# Altium schematic symbol library PulseGenSymLib.SchLib: 31 symbols
Pins are listed as number, name and electrical type; pins without a type are passive.

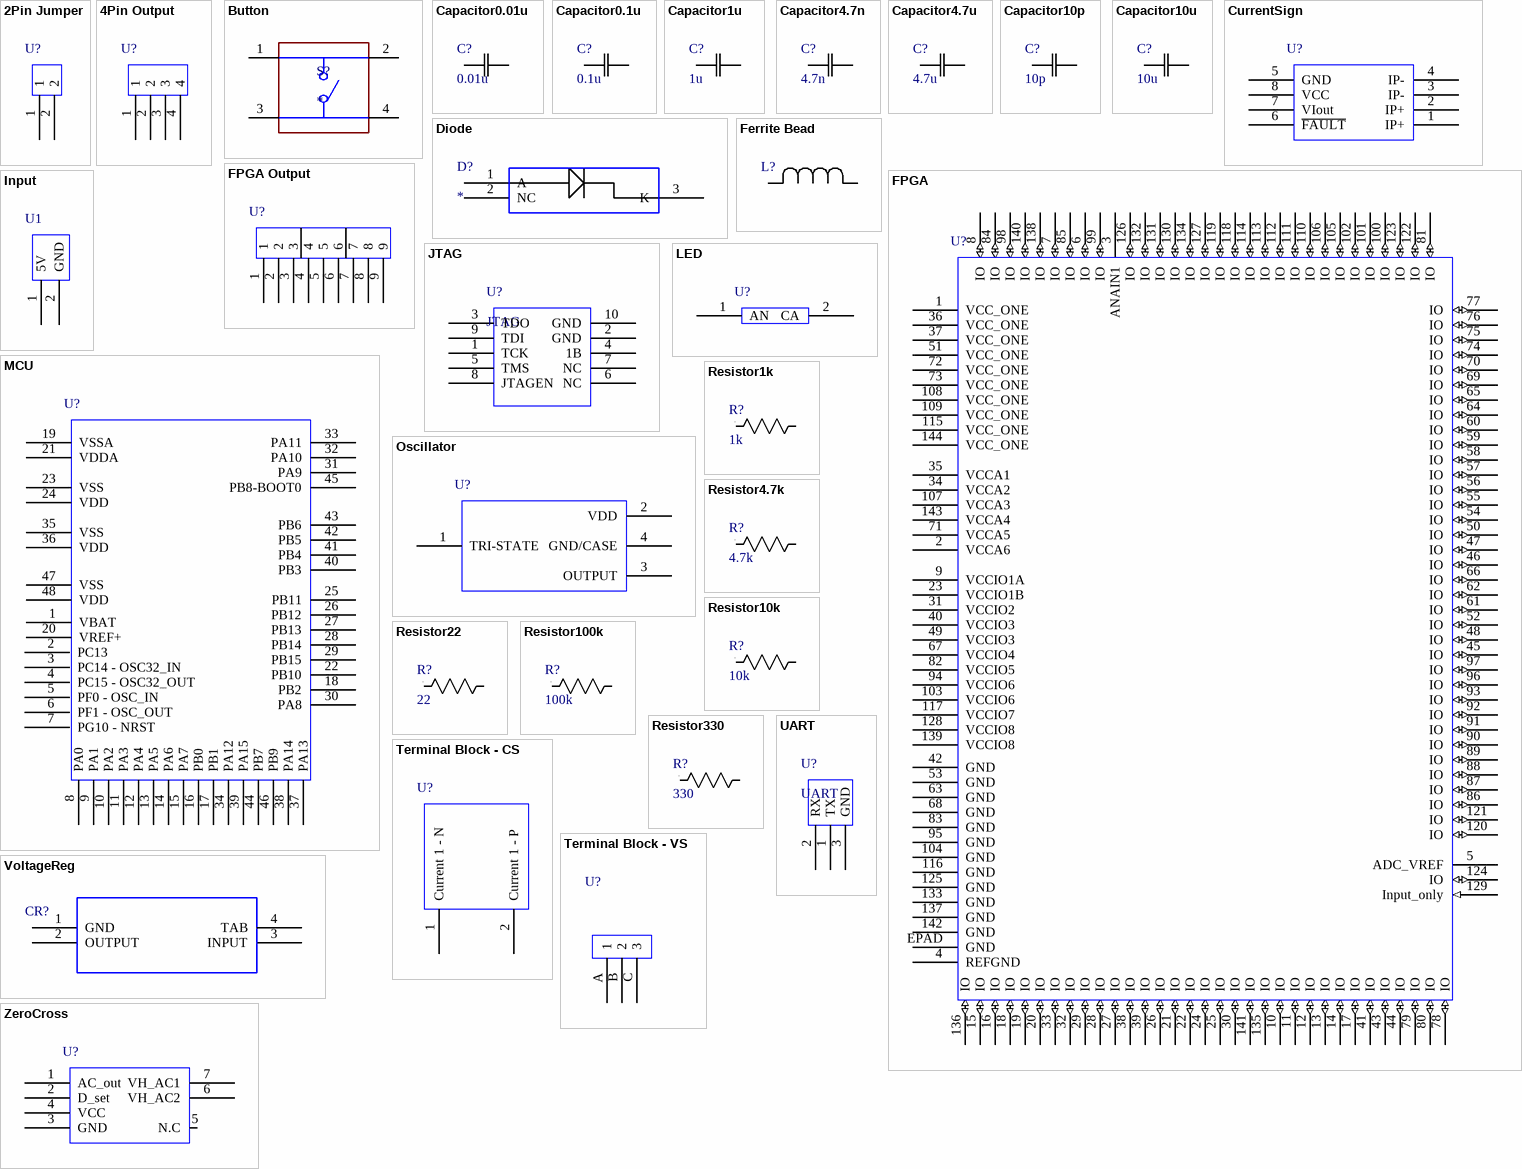
[diagram p0: symbols 2Pin Jumper to ZeroCross]

## 2Pin Jumper
designator U?
footprint 2Pin Jumper
pins: 1, 2

## 4Pin Output
designator U?
footprint 4Pin Output
pins: 1, 2, 3, 4

## Button
designator S?
SW_TS02-66-60-BK-100-LCR-D; Availability: Unavailable; Price: None; Package: None; MP: TS02-66-60-BK-100-LCR-D; Value: *
footprint Button (SW_TS02-66-60-BK-100-LCR-D)
pins: 1, 2, 3, 4

## Capacitor0.01u
designator C?, comment 0.01u
C0805C103J1GEC7800; Mfr_Name: Murata
footprint Resistor1
pins: 1, 2

## Capacitor0.1u
designator C?, comment 0.1u
C0805C104K1RAC7800; Mfr_Name: Murata
footprint Resistor1
pins: 1, 2

## Capacitor1u
designator C?, comment 1u
C0805C103J1GEC7800; Mfr_Name: Murata
footprint Resistor1
pins: 1, 2

## Capacitor4.7n
designator C?, comment 4.7n
C0805C472K1GEC7800; Mfr_Name: Murata
footprint Resistor1
pins: 1, 2

## Capacitor4.7u
designator C?, comment 4.7u
C0805C472K1GEC7800; Mfr_Name: Murata
footprint Resistor1
pins: 1, 2

## Capacitor10p
designator C?, comment 10p
C0805C103J1GEC7800; Mfr_Name: Murata
footprint Resistor1
pins: 1, 2

## Capacitor10u
designator C?, comment 10u
C0805C104K1RAC7800; Mfr_Name: Murata
footprint Resistor1
pins: 1, 2

## CurrentSign
designator U?
ACS71240LLCBTR-010B3
footprint CurrentSign4
pins: 1 IP+, 2 IP+, 3 IP-, 4 IP-, 5 GND, 6 ~{FAULT}, 7 VIout, 8 VCC

## Diode
designator D?
Mfr_Name: onsemi; Type: Diodes - Rectifiers, Single; RefDes: RefDes
footprint Diode1
pins: 1 A, 2 NC, 3 K

## Ferrite Bead
designator L?
BLM21BB050SN1D; Mfr_Name: TDK
footprint Resistor1
pins: 1, 2

## FPGA
designator U?
10M04SAE144C8G
footprint FPGA2
pins: 1 VCC_ONE (power), 2 VCCA6 (power), 3 ANAIN1, 4 REFGND (power), 5 ADC_VREF (power), 6 IO (io), 7 IO (io), 8 IO (io), 9 VCCIO1A (power), 10 IO (io), 11 IO (io), 12 IO (io), 13 IO (io), 14 IO (io), 15 IO (io), 16 IO (io), 17 IO (io), 18 IO (io), 19 IO (io), 20 IO (io), 21 IO (io), 22 IO (io), 23 VCCIO1B (power), 24 IO (io), 25 IO (io), 26 IO (io), 27 IO (io), 28 IO (io), 29 IO (io), 30 IO (io), 31 VCCIO2 (power), 32 IO (io), 33 IO (io), 34 VCCA2 (power), 35 VCCA1 (power), 36 VCC_ONE (power), 37 VCC_ONE (power), 38 IO (io), 39 IO (io), 40 VCCIO3 (power), 41 IO (io), 42 GND (power), 43 IO (io), 44 IO (io), 45 IO (io), 46 IO (io), 47 IO (io), 48 IO (io), 49 VCCIO3 (power), 50 IO (io), 51 VCC_ONE (power), 52 IO (io), 53 GND (power), 54 IO (io), 55 IO (io), 56 IO (io), 57 IO (io), 58 IO (io), 59 IO (io), 60 IO (io), 61 IO (io), 62 IO (io), 63 GND (power), 64 IO (io), 65 IO (io), 66 IO (io), 67 VCCIO4 (power), 68 GND (power), 69 IO (io), 70 IO (io), 71 VCCA5 (power), 72 VCC_ONE (power), 73 VCC_ONE (power), 74 IO (io), 75 IO (io), 76 IO (io), 77 IO (io), 78 IO (io), 79 IO (io), 80 IO (io), 81 IO (io), 82 VCCIO5 (power), 83 GND (power), 84 IO (io), 85 IO (io), 86 IO (io), 87 IO (io), 88 IO (io), 89 IO (io), 90 IO (io), 91 IO (io), 92 IO (io), 93 IO (io), 94 VCCIO6 (power), 95 GND (power), 96 IO (io), 97 IO (io), 98 IO (io), 99 IO (io), 100 IO (io), 101 IO (io), 102 IO (io), 103 VCCIO6 (power), 104 GND (power), 105 IO (io), 106 IO (io), 107 VCCA3 (power), 108 VCC_ONE (power), 109 VCC_ONE (power), 110 IO (io), 111 IO (io), 112 IO (io), 113 IO (io), 114 IO (io), 115 VCC_ONE (power), 116 GND (power), 117 VCCIO7 (power), 118 IO (io), 119 IO (io), 120 IO (io), 121 IO (io), 122 IO (io), 123 IO (io), 124 IO (io), 125 GND (power), 126 IO (io), 127 IO (io), 128 VCCIO8 (power), 129 Input_only (in), 130 IO (io), 131 IO (io), 132 IO (io), 133 GND (power), 134 IO (io), 135 IO (io), 136 IO (io), 137 GND (power), 138 IO (io), 139 VCCIO8 (power), 140 IO (io), 141 IO (io), 142 GND (power), 143 VCCA4 (power), 144 VCC_ONE (power), EPAD GND (power)

## FPGA Output
designator U?
footprint FPGA Output
pins: 1, 2, 3, 4, 5, 6, 7, 8, 9

## Input
designator U1
footprint Input (8719)
pins: 1 5V, 2 GND

## JTAG
designator U?
JTAG 10 Pin Header
footprint JTAG
pins: 1 TCK, 2 GND, 3 TDO, 4 1B, 5 TMS, 6 NC, 7 NC, 8 JTAGEN, 9 TDI, 10 GND

## LED
designator U?
footprint Resistor1
pins: 1 AN, 2 CA

## MCU
designator U?
STM32G491CET6
footprint MCU2
pins: 1 VBAT, 2 PC13, 3 PC14 - OSC32_IN, 4 PC15 - OSC32_OUT, 5 PF0 - OSC_IN, 6 PF1 - OSC_OUT, 7 PG10 - NRST, 8 PA0, 9 PA1, 10 PA2, 11 PA3, 12 PA4, 13 PA5, 14 PA6, 15 PA7, 16 PB0, 17 PB1, 18 PB2, 19 VSSA, 20 VREF+, 21 VDDA, 22 PB10, 23 VSS, 24 VDD, 25 PB11, 26 PB12, 27 PB13, 28 PB14, 29 PB15, 30 PA8, 31 PA9, 32 PA10, 33 PA11, 34 PA12, 35 VSS, 36 VDD, 37 PA13, 38 PA14, 39 PA15, 40 PB3, 41 PB4, 42 PB5, 43 PB6, 44 PB7, 45 PB8-BOOT0, 46 PB9, 47 VSS, 48 VDD

## Oscillator
designator U?
ASE-48.000MHZ-L-C-T
footprint Oscillator
pins: 1 TRI-STATE, 2 VDD, 3 OUTPUT, 4 GND/CASE

## Resistor1k
designator R?, comment 1k
RMCF0805FT4K70; Mfr_Name: Stackpole International
footprint Resistor1
pins: 2, ?1
text: 1

## Resistor4.7k
designator R?, comment 4.7k
RMCF0805FT4K70; Mfr_Name: Stackpole International
footprint Resistor1
pins: 2, ?1
text: 1

## Resistor10k
designator R?, comment 10k
RMCF0805FT4K70; Mfr_Name: Stackpole International
footprint Resistor1
pins: 2, ?1
text: 1

## Resistor22
designator R?, comment 22
RMCF0603JT22R0; Mfr_Name: Stackpole International
footprint Resistor1
pins: 2, ?1
text: 1

## Resistor100k
designator R?, comment 100k
RMCF0805FT100K; Mfr_Name: Stackpole International
footprint Resistor1
pins: 2, ?1
text: 1

## Resistor330
designator R?, comment 330
RMCF0805FT330R; Mfr_Name: Stackpole International
footprint Resistor1
pins: 2, ?1
text: 1

## Terminal Block - CS
designator U?
8719
footprint Terminal Block - CS
pins: 1 Current 1 - N, 2 Current 1 - P

## Terminal Block - VS
designator U?
8719
footprint Terminal Block - VS (8719)
pins: A 1, B 2, C 3

## UART
designator U?
footprint UART
pins: 1 TX, 2 RX, 3 GND

## VoltageReg
designator CR?
LD1117S33TR; Mfr_Name: STMicroelectronics; RefDes: RefDes; Type: Type
footprint VoltageReg1
pins: 1 GND (power), 2 OUTPUT (power), 3 INPUT (power), 4 TAB (power)

## ZeroCross
designator U?
BM1Z003FJ-E2
footprint ZeroCross1
pins: 1 AC_out, 2 D_set, 3 GND, 4 VCC, 5 N.C, 6 VH_AC2, 7 VH_AC1